# Altium schematic symbol library Led _ Buzzer.SchLib: 4 symbols
Pins are listed as number, name and electrical type; pins without a type are passive.

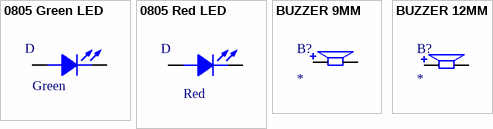
[diagram p0: symbols 0805 Green LED to BUZZER 12MM]

## 0805 Green LED
designator D  value Green  (hidden comment: *)
Manufacturer: AVAGO Technologies; Manufacturer Code: HSMG-C170; Current: 20mA; Voltage: 2.2V; Farnell Code: 5790852; Unit Price: 0,134 €
footprint 0805 Green LED (Footprint not found)
pins: 1 ANODE, 2 CATHODE

## 0805 Red LED
designator D  value Red  (hidden comment: *)
Manufacturer: MULTICOMP; Voltage: 2.1V; Current: 20mA; Wavelenght: 625nm; Manufacturer Code: OVS-0808; Farnell Code: 1716768; Unit Price: 0,065 €; MOQ: 10
footprint 0805 RED LED
pins: 1 ANODE, 2 CATHODE

## BUZZER 9MM
designator B?
3V3 ÇALIŞMA GERİLİMİ
footprint BUZZER 9MM
pins: +, -

## BUZZER 12MM
designator B?
footprint BUZZER
pins: +, -